# Altium schematic symbol library TVS_single_unidirectional.SchLib: 1 symbol
Pins are listed as number, name and electrical type; pins without a type are passive.

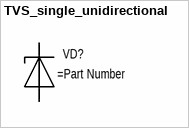
[diagram p0: symbol TVS_single_unidirectional]

## TVS_single_unidirectional
designator VD?
pins: 1 A, 2 C